# EAGLE library part ALEXIOS_AS7C34098A (library video-max5)
3.3 V 256 K × 16 CMOS SRAM Datasheet: http://www.farnell.com/datasheets/32806.pdf Farnell: 1562919 <http://export.farnell.com/alliance-memory/as7c34098a-12jin/sram-4mb-3v-12ns-256kx16-soj44/dp/1562919> Features ? Pin compatible with AS7C34098 ? Industrial and commercial temperature ? Organization: 262,144 words × 16 bits ? Center power and ground pins ? High speed - 10/12/15/20 ns address access time - 4/5/6/7 ns output enable access time ? Low power consumption: ACTIVE - 650 mW /max @ 10 ns ? Low power consumption: STANDBY - 28.8 mW /max CMOS ? Individual byte read/write controls ? Easy memory expansion with CE, OE inputs ? TTL- and CMOS-compatible, three-state I/O ? 44-pin JEDEC standard packages - 400-mil SOJ - TSOP 2 ? ESD protection ? 2000 volts ? Latch-up current ? 200 mA
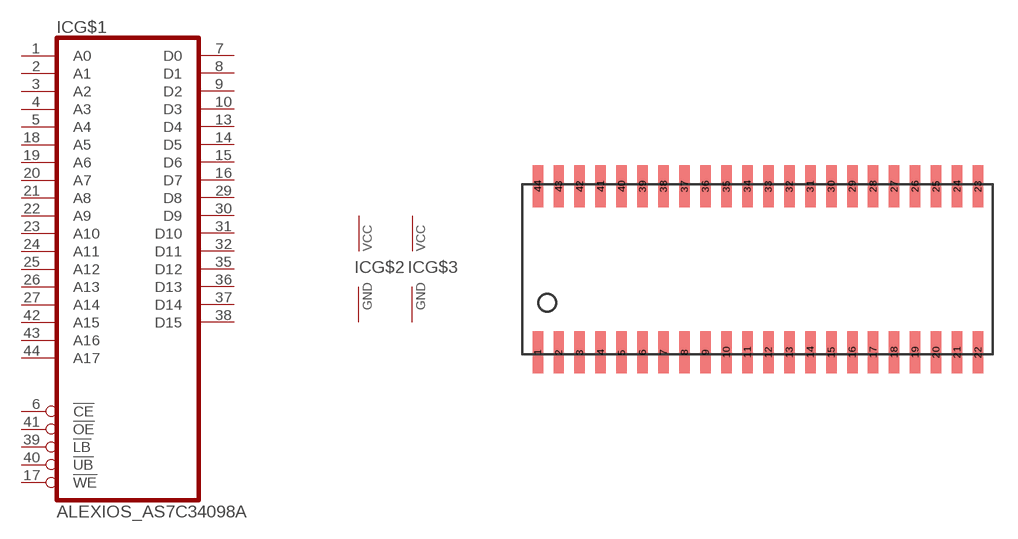
[diagram p1: symbol with the pads of ALEXIOS_SOJ44-4; footprint ALEXIOS_SOJ44-4]

Designator prefix IC; gates G$1=ALEXIOS_SRAM-256KX16 G$2=ALEXIOS_PWRGND G$3=ALEXIOS_PWRGND

## ALEXIOS_AS7C34098A  [ALEXIOS_SOJ44-4]
1  G$1:A0  in
2  G$1:A1  in
3  G$1:A2  in
4  G$1:A3  in
5  G$1:A4  in
6  G$1:!CE  in
7  G$1:D0  hiz
8  G$1:D1  hiz
9  G$1:D2  hiz
10  G$1:D3  hiz
11  G$2:VCC  pwr
12  G$2:GND  pwr
13  G$1:D4  hiz
14  G$1:D5  hiz
15  G$1:D6  hiz
16  G$1:D7  hiz
17  G$1:!WE  in
18  G$1:A5  in
19  G$1:A6  in
20  G$1:A7  in
21  G$1:A8  in
22  G$1:A9  in
23  G$1:A10  in
24  G$1:A11  in
25  G$1:A12  in
26  G$1:A13  in
27  G$1:A14  in
29  G$1:D8  hiz
30  G$1:D9  hiz
31  G$1:D10  hiz
32  G$1:D11  hiz
33  G$3:VCC  pwr
34  G$3:GND  pwr
35  G$1:D12  hiz
36  G$1:D13  hiz
37  G$1:D14  hiz
38  G$1:D15  hiz
39  G$1:!LB  in
40  G$1:!UB  in
41  G$1:!OE  in
42  G$1:A15  in
43  G$1:A16  in
44  G$1:A17  in

## Footprint ALEXIOS_SOJ44-4 (pad centres in mm)
Small Outline J-Bend
smd 0.635 x 2.54: 1 -13.335,-5.029; 2 -12.065,-5.029; 3 -10.795,-5.029; 4 -9.525,-5.029; 5 -8.255,-5.029; 6 -6.985,-5.029; 7 -5.715,-5.029; 8 -4.445,-5.029; 9 -3.175,-5.029; 10 -1.905,-5.029; 11 -0.635,-5.029; 12 0.635,-5.029; 13 1.905,-5.029; 14 3.175,-5.029; 15 4.445,-5.029; 16 5.715,-5.029; 17 6.985,-5.029; 18 8.255,-5.029; 19 9.525,-5.029; 20 10.795,-5.029; 21 12.065,-5.029; 22 13.335,-5.029; 23 13.335,5.029; 24 12.065,5.029; 25 10.795,5.029; 26 9.525,5.029; 27 8.255,5.029; 28 6.985,5.029; 29 5.715,5.029; 30 4.445,5.029; 31 3.175,5.029; 32 1.905,5.029; 33 0.635,5.029; 34 -0.635,5.029; 35 -1.905,5.029; 36 -3.175,5.029; 37 -4.445,5.029; 38 -5.715,5.029; 39 -6.985,5.029; 40 -8.255,5.029; 41 -9.525,5.029; 42 -10.795,5.029; 43 -12.065,5.029; 44 -13.335,5.029